# EAGLE library part XCV100_BG256 (library xilinx-xcv)
xcv100_bg256_1532 edit this description Auto generated by make-symbol-device-package-bsdl.ulp Rev. 25 Source: xcv100_bg256_1532.bsd
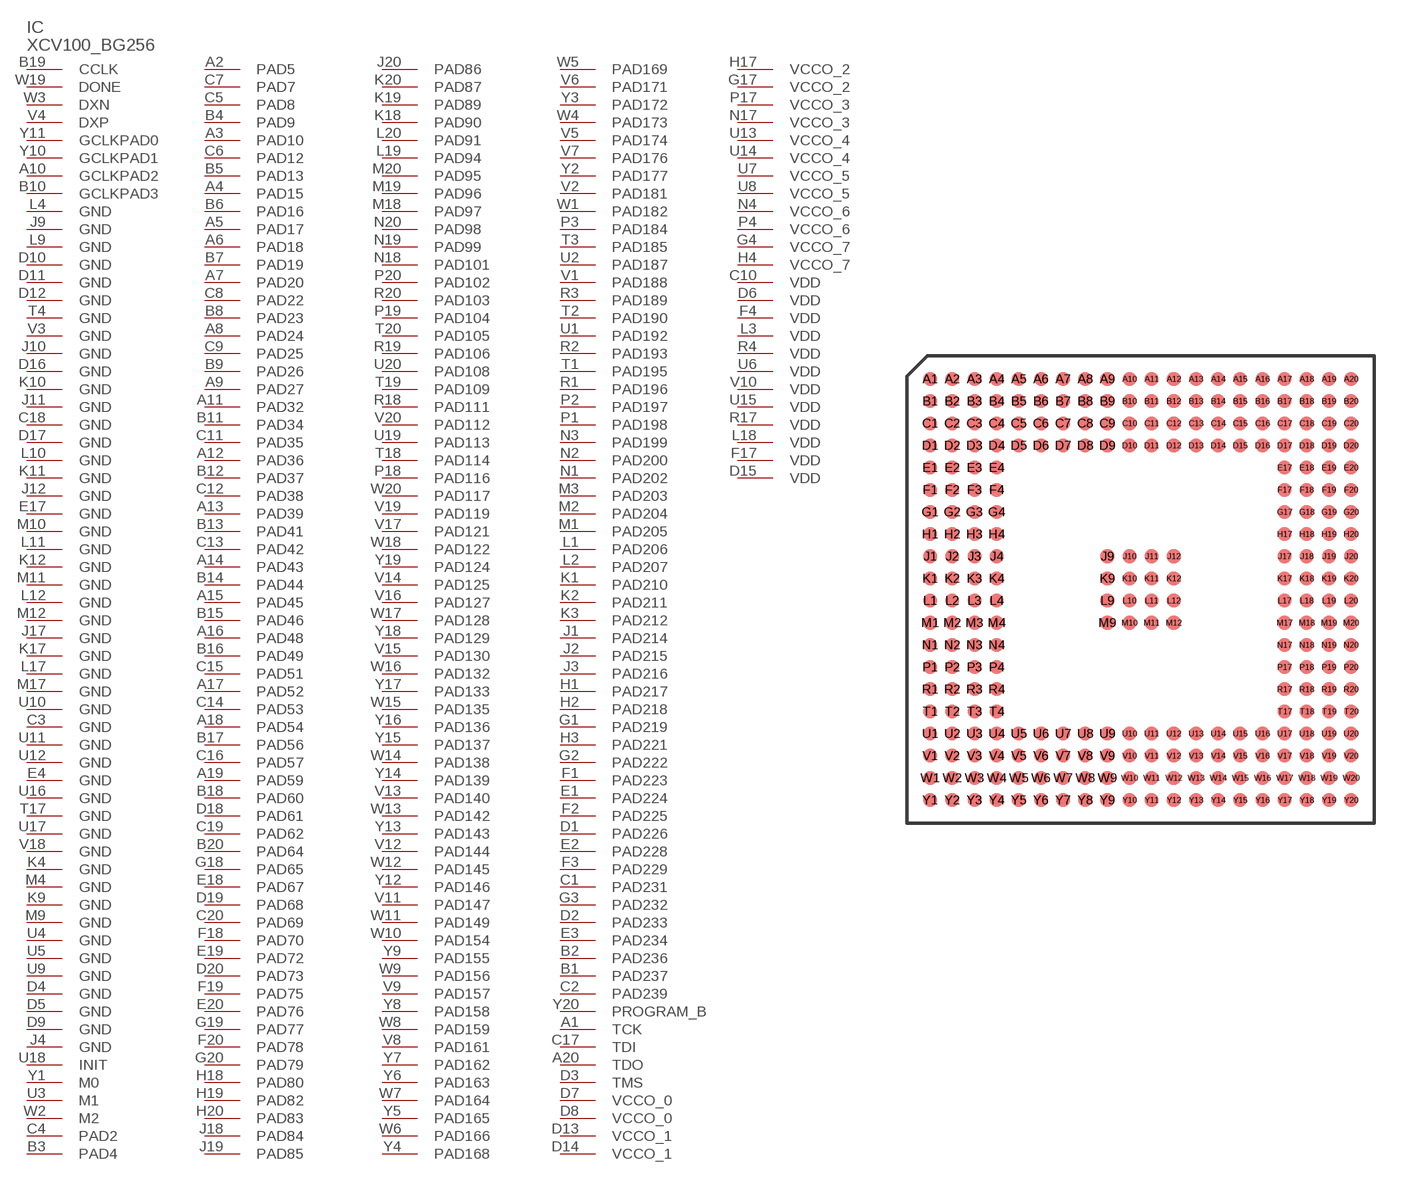
[diagram p0: symbol with the pads of BG256; footprint BG256]

Designator prefix IC

## XCV100_BG256 (OC_FARNELL: unknown; OC_NEWARK: unknown)  [BG256]
A1  TCK  in
A2  PAD5
A3  PAD10
A4  PAD15
A5  PAD17
A6  PAD18
A7  PAD20
A8  PAD24
A9  PAD27
A10  GCLKPAD2  in
A11  PAD32
A12  PAD36
A13  PAD39
A14  PAD43
A15  PAD45
A16  PAD48
A17  PAD52
A18  PAD54
A19  PAD59
A20  TDO  out
B1  PAD237
B2  PAD236
B3  PAD4
B4  PAD9
B5  PAD13
B6  PAD16
B7  PAD19
B8  PAD23
B9  PAD26
B10  GCLKPAD3  in
B11  PAD34
B12  PAD37
B13  PAD41
B14  PAD44
B15  PAD46
B16  PAD49
B17  PAD56
B18  PAD60
B19  CCLK
B20  PAD64
C1  PAD231
C2  PAD239
C3  GND  pwr
C4  PAD2
C5  PAD8
C6  PAD12
C7  PAD7
C8  PAD22
C9  PAD25
C10  VDD  pwr
C11  PAD35
C12  PAD38
C13  PAD42
C14  PAD53
C15  PAD51
C16  PAD57
C17  TDI  in
C18  GND  pwr
C19  PAD62
C20  PAD69
D1  PAD226
D2  PAD233
D3  TMS  in
D4  GND  pwr
D5  GND  pwr
D6  VDD  pwr
D7  VCCO_0  pwr
D8  VCCO_0  pwr
D9  GND  pwr
D10  GND  pwr
D11  GND  pwr
D12  GND  pwr
D13  VCCO_1  pwr
D14  VCCO_1  pwr
D15  VDD  pwr
D16  GND  pwr
D17  GND  pwr
D18  PAD61
D19  PAD68
D20  PAD73
E1  PAD224
E2  PAD228
E3  PAD234
E4  GND  pwr
E17  GND  pwr
E18  PAD67
E19  PAD72
E20  PAD76
F1  PAD223
F2  PAD225
F3  PAD229
F4  VDD  pwr
F17  VDD  pwr
F18  PAD70
F19  PAD75
F20  PAD78
G1  PAD219
G2  PAD222
G3  PAD232
G4  VCCO_7  pwr
G17  VCCO_2  pwr
G18  PAD65
G19  PAD77
G20  PAD79
H1  PAD217
H2  PAD218
H3  PAD221
H4  VCCO_7  pwr
H17  VCCO_2  pwr
H18  PAD80
H19  PAD82
H20  PAD83
J1  PAD214
J2  PAD215
J3  PAD216
J4  GND  pwr
J9  GND  pwr
J10  GND  pwr
J11  GND  pwr
J12  GND  pwr
J17  GND  pwr
J18  PAD84
J19  PAD85
J20  PAD86
K1  PAD210
K2  PAD211
K3  PAD212
K4  GND  pwr
K9  GND  pwr
K10  GND  pwr
K11  GND  pwr
K12  GND  pwr
K17  GND  pwr
K18  PAD90
K19  PAD89
K20  PAD87
L1  PAD206
L2  PAD207
L3  VDD  pwr
L4  GND  pwr
L9  GND  pwr
L10  GND  pwr
L11  GND  pwr
L12  GND  pwr
L17  GND  pwr
L18  VDD  pwr
L19  PAD94
L20  PAD91
M1  PAD205
M2  PAD204
M3  PAD203
M4  GND  pwr
M9  GND  pwr
M10  GND  pwr
M11  GND  pwr
M12  GND  pwr
M17  GND  pwr
M18  PAD97
M19  PAD96
M20  PAD95
N1  PAD202
N2  PAD200
N3  PAD199
N4  VCCO_6  pwr
N17  VCCO_3  pwr
N18  PAD101
N19  PAD99
N20  PAD98
P1  PAD198
P2  PAD197
P3  PAD184
P4  VCCO_6  pwr
P17  VCCO_3  pwr
P18  PAD116
P19  PAD104
P20  PAD102
R1  PAD196
R2  PAD193
R3  PAD189
R4  VDD  pwr
R17  VDD  pwr
R18  PAD111
R19  PAD106
R20  PAD103
T1  PAD195
T2  PAD190
T3  PAD185
T4  GND  pwr
T17  GND  pwr
T18  PAD114
T19  PAD109
T20  PAD105
U1  PAD192
U2  PAD187
U3  M1  in
U4  GND  pwr
U5  GND  pwr
U6  VDD  pwr
U7  VCCO_5  pwr
U8  VCCO_5  pwr
U9  GND  pwr
U10  GND  pwr
U11  GND  pwr
U12  GND  pwr
U13  VCCO_4  pwr
U14  VCCO_4  pwr
U15  VDD  pwr
U16  GND  pwr
U17  GND  pwr
U18  INIT
U19  PAD113
U20  PAD108
V1  PAD188
V2  PAD181
V3  GND  pwr
V4  DXP  pas
V5  PAD174
V6  PAD171
V7  PAD176
V8  PAD161
V9  PAD157
V10  VDD  pwr
V11  PAD147
V12  PAD144
V13  PAD140
V14  PAD125
V15  PAD130
V16  PAD127
V17  PAD121
V18  GND  pwr
V19  PAD119
V20  PAD112
W1  PAD182
W2  M2  in
W3  DXN  pas
W4  PAD173
W5  PAD169
W6  PAD166
W7  PAD164
W8  PAD159
W9  PAD156
W10  PAD154
W11  PAD149
W12  PAD145
W13  PAD142
W14  PAD138
W15  PAD135
W16  PAD132
W17  PAD128
W18  PAD122
W19  DONE
W20  PAD117
Y1  M0  in
Y2  PAD177
Y3  PAD172
Y4  PAD168
Y5  PAD165
Y6  PAD163
Y7  PAD162
Y8  PAD158
Y9  PAD155
Y10  GCLKPAD1  in
Y11  GCLKPAD0  in
Y12  PAD146
Y13  PAD143
Y14  PAD139
Y15  PAD137
Y16  PAD136
Y17  PAD133
Y18  PAD129
Y19  PAD124
Y20  PROGRAM_B  in

## Footprint BG256 (pad centres in mm)
xcv100_bg256_1532 edit this description Auto generated by make-symbol-device-package-bsdl.ulp Rev. 25 Source: xcv100_bg256_1532.bsd
smd 0.8 x 0.8: A1 -12.065,12.065; A2 -10.795,12.065; A3 -9.525,12.065; A4 -8.255,12.065; A5 -6.985,12.065; A6 -5.715,12.065; A7 -4.445,12.065; A8 -3.175,12.065; A9 -1.905,12.065; A10 -0.635,12.065; A11 0.635,12.065; A12 1.905,12.065; A13 3.175,12.065; A14 4.445,12.065; A15 5.715,12.065; A16 6.985,12.065; A17 8.255,12.065; A18 9.525,12.065; A19 10.795,12.065; A20 12.065,12.065; B1 -12.065,10.795; B2 -10.795,10.795; B3 -9.525,10.795; B4 -8.255,10.795; B5 -6.985,10.795; B6 -5.715,10.795; B7 -4.445,10.795; B8 -3.175,10.795; B9 -1.905,10.795; B10 -0.635,10.795; B11 0.635,10.795; B12 1.905,10.795; B13 3.175,10.795; B14 4.445,10.795; B15 5.715,10.795; B16 6.985,10.795; B17 8.255,10.795; B18 9.525,10.795; B19 10.795,10.795; B20 12.065,10.795; C1 -12.065,9.525; C2 -10.795,9.525; C3 -9.525,9.525; C4 -8.255,9.525; C5 -6.985,9.525; C6 -5.715,9.525; C7 -4.445,9.525; C8 -3.175,9.525; C9 -1.905,9.525; C10 -0.635,9.525; C11 0.635,9.525; C12 1.905,9.525; C13 3.175,9.525; C14 4.445,9.525; C15 5.715,9.525; C16 6.985,9.525; C17 8.255,9.525; C18 9.525,9.525; C19 10.795,9.525; C20 12.065,9.525; D1 -12.065,8.255; D2 -10.795,8.255; D3 -9.525,8.255; D4 -8.255,8.255; D5 -6.985,8.255; D6 -5.715,8.255; D7 -4.445,8.255; D8 -3.175,8.255; D9 -1.905,8.255; D10 -0.635,8.255; D11 0.635,8.255; D12 1.905,8.255; D13 3.175,8.255; D14 4.445,8.255; D15 5.715,8.255; D16 6.985,8.255; D17 8.255,8.255; D18 9.525,8.255; D19 10.795,8.255; D20 12.065,8.255; E1 -12.065,6.985; E2 -10.795,6.985; E3 -9.525,6.985; E4 -8.255,6.985; E17 8.255,6.985; E18 9.525,6.985; E19 10.795,6.985; E20 12.065,6.985; F1 -12.065,5.715; F2 -10.795,5.715; F3 -9.525,5.715; F4 -8.255,5.715; F17 8.255,5.715; F18 9.525,5.715; F19 10.795,5.715; F20 12.065,5.715; G1 -12.065,4.445; G2 -10.795,4.445; G3 -9.525,4.445; G4 -8.255,4.445; G17 8.255,4.445; G18 9.525,4.445; G19 10.795,4.445; G20 12.065,4.445; H1 -12.065,3.175; H2 -10.795,3.175; H3 -9.525,3.175; H4 -8.255,3.175; H17 8.255,3.175; H18 9.525,3.175; H19 10.795,3.175; H20 12.065,3.175; J1 -12.065,1.905; J2 -10.795,1.905; J3 -9.525,1.905; J4 -8.255,1.905; J9 -1.905,1.905; J10 -0.635,1.905; J11 0.635,1.905; J12 1.905,1.905; J17 8.255,1.905; J18 9.525,1.905; J19 10.795,1.905; J20 12.065,1.905; K1 -12.065,0.635; K2 -10.795,0.635; K3 -9.525,0.635; K4 -8.255,0.635; K9 -1.905,0.635; K10 -0.635,0.635; K11 0.635,0.635; K12 1.905,0.635; K17 8.255,0.635; K18 9.525,0.635; K19 10.795,0.635; K20 12.065,0.635; L1 -12.065,-0.635; L2 -10.795,-0.635; L3 -9.525,-0.635; L4 -8.255,-0.635; L9 -1.905,-0.635; L10 -0.635,-0.635; L11 0.635,-0.635; L12 1.905,-0.635; L17 8.255,-0.635; L18 9.525,-0.635; L19 10.795,-0.635; L20 12.065,-0.635; M1 -12.065,-1.905; M2 -10.795,-1.905; M3 -9.525,-1.905; M4 -8.255,-1.905; M9 -1.905,-1.905; M10 -0.635,-1.905; M11 0.635,-1.905; M12 1.905,-1.905; M17 8.255,-1.905; M18 9.525,-1.905; M19 10.795,-1.905; M20 12.065,-1.905; N1 -12.065,-3.175; N2 -10.795,-3.175; N3 -9.525,-3.175; N4 -8.255,-3.175; N17 8.255,-3.175; N18 9.525,-3.175; N19 10.795,-3.175; N20 12.065,-3.175; P1 -12.065,-4.445; P2 -10.795,-4.445; P3 -9.525,-4.445; P4 -8.255,-4.445; P17 8.255,-4.445; P18 9.525,-4.445; P19 10.795,-4.445; P20 12.065,-4.445; R1 -12.065,-5.715; R2 -10.795,-5.715; R3 -9.525,-5.715; R4 -8.255,-5.715; R17 8.255,-5.715; R18 9.525,-5.715; R19 10.795,-5.715; R20 12.065,-5.715; T1 -12.065,-6.985; T2 -10.795,-6.985; T3 -9.525,-6.985; T4 -8.255,-6.985; T17 8.255,-6.985; T18 9.525,-6.985; T19 10.795,-6.985; T20 12.065,-6.985; U1 -12.065,-8.255; U2 -10.795,-8.255; U3 -9.525,-8.255; U4 -8.255,-8.255; U5 -6.985,-8.255; U6 -5.715,-8.255; U7 -4.445,-8.255; U8 -3.175,-8.255; U9 -1.905,-8.255; U10 -0.635,-8.255; U11 0.635,-8.255; U12 1.905,-8.255; U13 3.175,-8.255; U14 4.445,-8.255; U15 5.715,-8.255; U16 6.985,-8.255; U17 8.255,-8.255; U18 9.525,-8.255; U19 10.795,-8.255; U20 12.065,-8.255; V1 -12.065,-9.525; V2 -10.795,-9.525; V3 -9.525,-9.525; V4 -8.255,-9.525; V5 -6.985,-9.525; V6 -5.715,-9.525; V7 -4.445,-9.525; V8 -3.175,-9.525; V9 -1.905,-9.525; V10 -0.635,-9.525; V11 0.635,-9.525; V12 1.905,-9.525; V13 3.175,-9.525; V14 4.445,-9.525; V15 5.715,-9.525; V16 6.985,-9.525; V17 8.255,-9.525; V18 9.525,-9.525; V19 10.795,-9.525; V20 12.065,-9.525; W1 -12.065,-10.795; W2 -10.795,-10.795; W3 -9.525,-10.795; W4 -8.255,-10.795; W5 -6.985,-10.795; W6 -5.715,-10.795; W7 -4.445,-10.795; W8 -3.175,-10.795; W9 -1.905,-10.795; W10 -0.635,-10.795; W11 0.635,-10.795; W12 1.905,-10.795; W13 3.175,-10.795; W14 4.445,-10.795; W15 5.715,-10.795; W16 6.985,-10.795; W17 8.255,-10.795; W18 9.525,-10.795; W19 10.795,-10.795; W20 12.065,-10.795; Y1 -12.065,-12.065; Y2 -10.795,-12.065; Y3 -9.525,-12.065; Y4 -8.255,-12.065; Y5 -6.985,-12.065; Y6 -5.715,-12.065; Y7 -4.445,-12.065; Y8 -3.175,-12.065; Y9 -1.905,-12.065; Y10 -0.635,-12.065; Y11 0.635,-12.065; Y12 1.905,-12.065; Y13 3.175,-12.065; Y14 4.445,-12.065; Y15 5.715,-12.065; Y16 6.985,-12.065; Y17 8.255,-12.065; Y18 9.525,-12.065; Y19 10.795,-12.065; Y20 12.065,-12.065